# Altium footprint library SOT95P240X120-3N.PcbLib: 2 footprints
Each footprint in its own frame and in the unit in brackets; x right, y up, seen from the top. Pads: shape width x height; smd on the part's side, far side on the other; paste and mask are expansions set on the pad; w line width, h text height; cw(c..) or ccw(c..) is an arc to the next point about the centre after c.
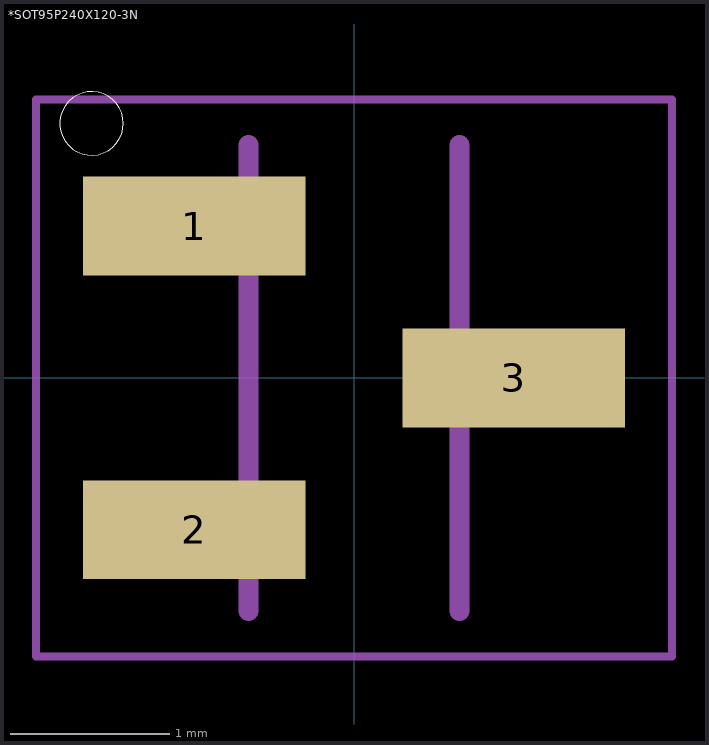
[diagram p0: the footprints below, top view; thin cyan lines are the x and y axes]

## *SOT95P240X120-3N [mm]
pads (3):
  rect 1.4x0.62 smd: 1(-1.005,0.955) 2(-1.005,-0.955) 3(1.005,0)
Top Overlay:
  circle w0: c-1.65,1.6 r0.2
Mechanical 4:
  lines w0.127: -0.663,-1.465 -0.663,1.465 -0.663,-1.465 ; 0.663,-1.465 0.663,1.465 0.663,-1.465
Mechanical 16:
  lines w0.05: -2,-1.75 2,-1.75 2,1.75 -2,1.75 -2,-1.75

## PCBComponent_1 [mm]